# Altium integrated library Motorola Video Sound Circuit.IntLib: 1 symbol
Pins are listed as number, name and electrical type; pins without a type are passive.

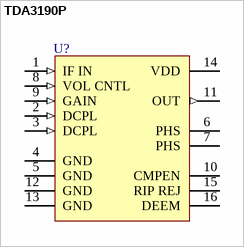
[diagram p0: symbol TDA3190P]

## TDA3190P
designator U?
TV Sound System; Published: 17-Jul-2002; LatestRevisionDate: 06-Jun-2005; LatestRevisionNote: Stylized 3D Model Added.; DatasheetVersion: 1988; PackageReference: 648C-02; Publisher: Altium Limited; PackageDescription: DIP; 16 Leads; Row Spacing 7.62 mm; Pitch 2.54 mm
footprint 648C-02 (DIP; 16 Leads; Row Spacing 7.62 mm; Pitch 2.54 mm)
3D model 648C-02 (DIP; 16 Leads; Row Spacing 7.62 mm; Pitch 2.54 mm)
pins: 1 IF IN (in), 2 DCPL (in), 3 DCPL (in), 4 GND (power), 5 GND (power), 6 PHS, 7 PHS, 8 VOL CNTL (in), 9 GAIN (in), 10 CMPEN, 11 OUT (out), 12 GND (power), 13 GND (power), 14 VDD (power), 15 RIP REJ, 16 DEEM